# EAGLE library part IDC_RECEPTACLE_20PIN (library con-cable)
IDC Receptacle, keyed, shrouded, 0.1" pitch 2x10 pins 20 pin, Sullins SBH11-PBPC-D10-ST-BK, S9172-ND
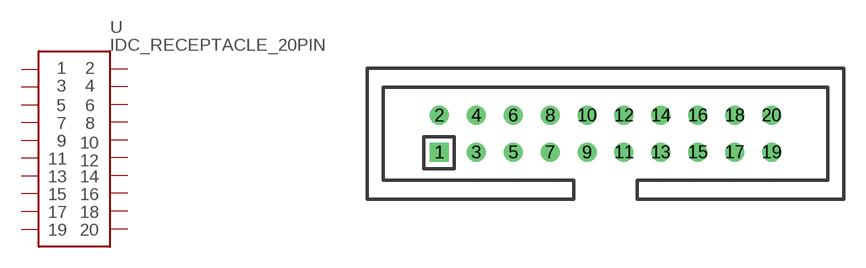
[diagram p2: symbol with the pads of IDC_RECEPTACLES_20PIN; footprint IDC_RECEPTACLES_20PIN]

Designator prefix -

## IDC_RECEPTACLE_20PIN-S9172-ND  [IDC_RECEPTACLES_20PIN]
1  1
2  2
3  3
4  4
5  5
6  6
7  7
8  8
9  9
10  10
11  11
12  12
13  13
14  14
15  15
16  16
17  17
18  18
19  19
20  20

## Footprint IDC_RECEPTACLES_20PIN (pad centres in mm)
drill 0.8 square: 1 -11.43,-1.27
drill 0.8: 2 -11.43,1.27; 3 -8.89,-1.27; 4 -8.89,1.27; 5 -6.35,-1.27; 6 -6.35,1.27; 7 -3.81,-1.27; 8 -3.81,1.27; 9 -1.27,-1.27; 10 -1.27,1.27; 11 1.27,-1.27; 12 1.27,1.27; 13 3.81,-1.27; 14 3.81,1.27; 15 6.35,-1.27; 16 6.35,1.27; 17 8.89,-1.27; 18 8.89,1.27; 19 11.43,-1.27; 20 11.43,1.27